# Altium footprint library PcbLib1.PcbLib: 264 footprints (part 2 of 17)
Each footprint in its own frame and in the unit in brackets; x right, y up, seen from the top. Pads: shape width x height; smd on the part's side, far side on the other; paste and mask are expansions set on the pad; w line width, h text height; cw(c..) or ccw(c..) is an arc to the next point about the centre after c.
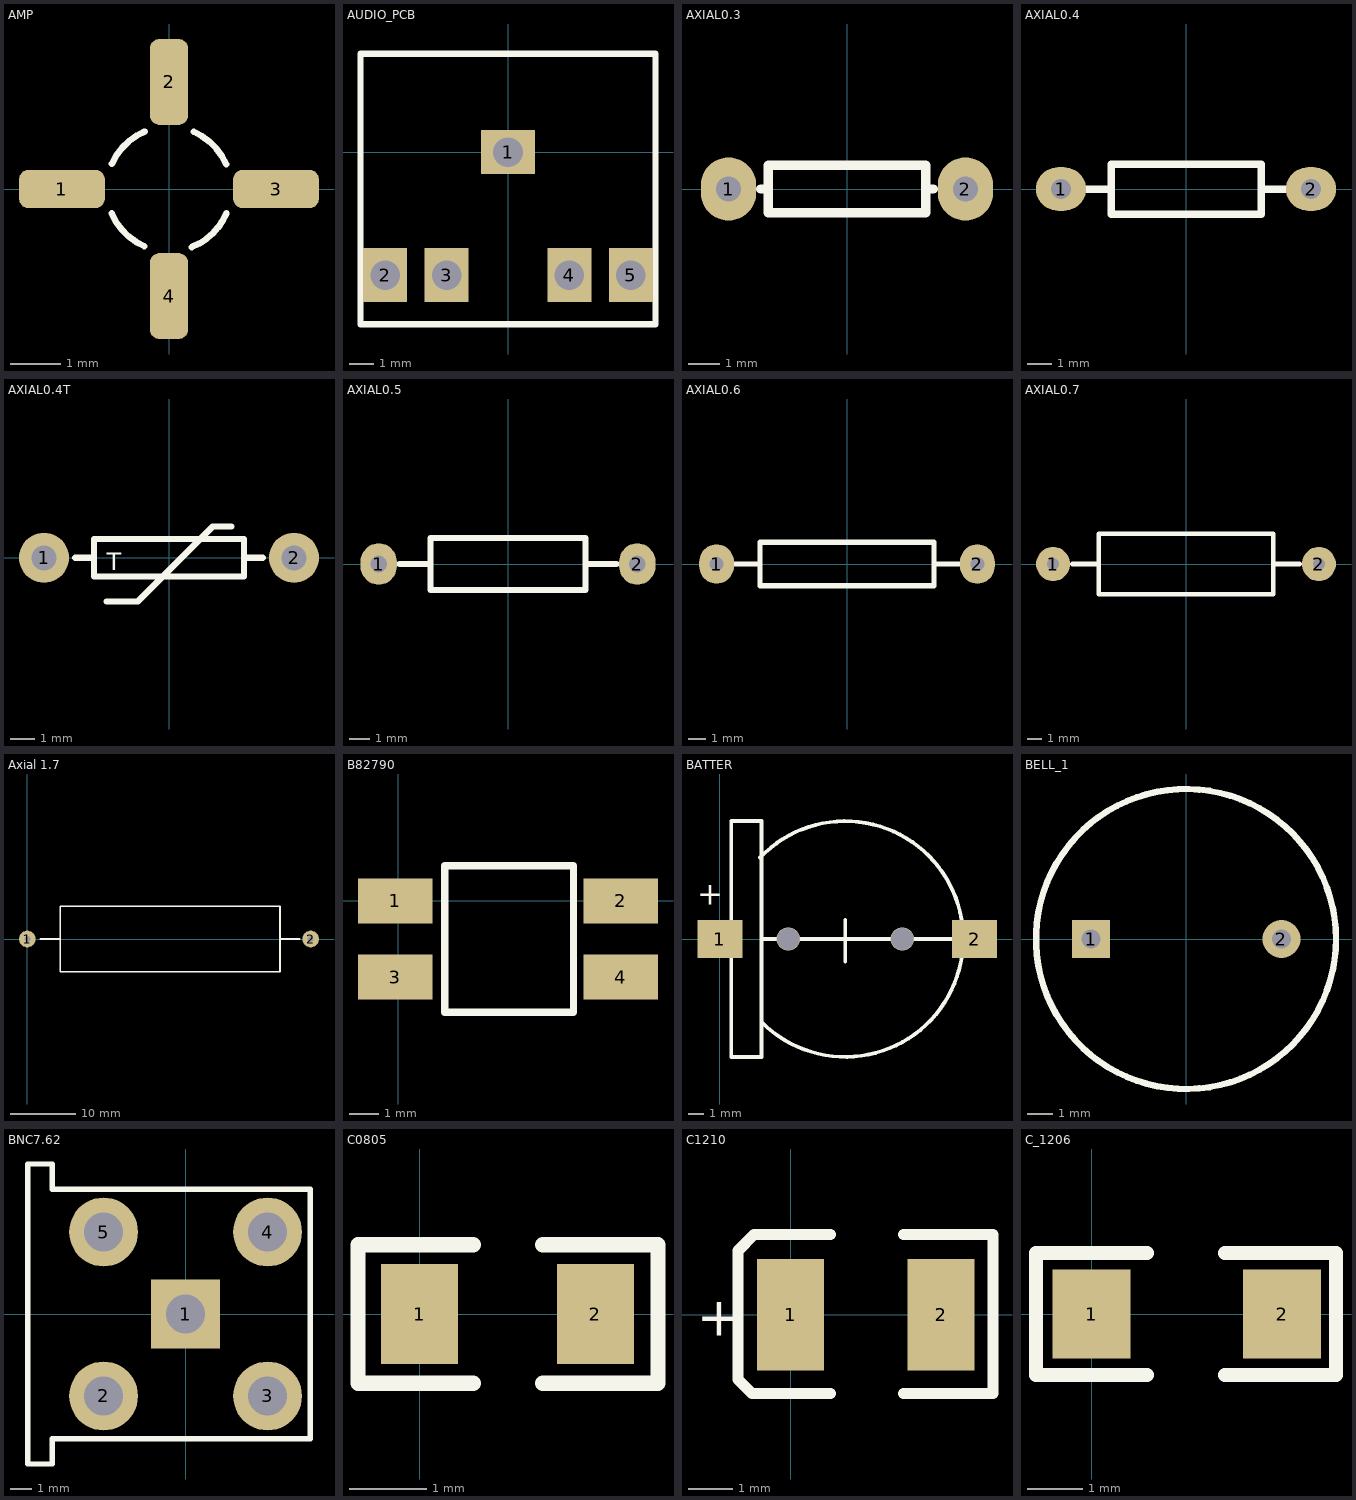
[diagram p1: the footprints below, top view; thin cyan lines are the x and y axes]

## AMP [mm]
pads (4):
  rrect50% 1.7x0.762 smd: 1(-2.12,0) 3(2.12,0)
  rrect50% 0.762x1.7 smd: 2(0,2.12) 4(0,-2.12)
Top Overlay:
  lines w0.127: -1.136,-0.484 ccw(c0,0) -0.488,-1.134 ; -1.131,0.496 cw(c0,0) -0.479,1.138 ; 0.45,-1.15 ccw(c0,0) 1.138,-0.479 ; 0.494,1.132 cw(c0,0) 1.133,0.491

## AUDIO_PCB [mm]
pads (5):
  rect 2.2x1.8 hole 1.2: 1(0,0)
  rect 1.8x2.2 hole 1.2: 2(-5,-5) 3(-2.5,-5) 4(2.5,-5) 5(5,-5)
Top Overlay:
  lines w0.254: -6,-7 6,-7 6,4 -6,4 -6,-7

## AXIAL0.3 [mil]
pads (2):
  oval 70x80 hole 32: 1(-150,0) 2(150,0)
Top Overlay:
  lines w12: -109,0 -100,0 ; 109,0 100,0 ; 100,0 100,-30 -100,-30 -100,30 100,30 100,0

## AXIAL0.4 [mil]
pads (2):
  oval 80x70 hole 32: 1(-200,0) 2(200,0)
Top Overlay:
  lines w12: -160,0 -120,0 ; 120,0 160,0 ; -120,-40 120,-40 120,40 -120,40 -120,-40

## AXIAL0.4T [mil]
pads (2):
  round 80 hole 40: 1(-200,0) 2(200,0)
Top Overlay:
  lines w10: -150,0 -120,0 ; -100,-70 -50,-70 70,50 100,50 ; 120,0 150,0 ; -120,-30 120,-30 120,30 -120,30 -120,-30
  text "T" at -100,-20 h28

## AXIAL0.5 [mil]
pads (2):
  oval 70x80 hole 32: 1(-250,0) 2(250,0)
Top Overlay:
  lines w12: -210,0 -150,0 ; 150,0 210,0 ; -150,-50 -150,50 150,50 150,-50 -150,-50

## AXIAL0.6 [mil]
pads (2):
  oval 80x90 hole 32: 1(-300,0) 2(300,0)
Top Overlay:
  lines w12: -260,0 -200,0 ; 200,0 260,0 ; -200,-50 200,-50 200,50 -200,50 -200,-50

## AXIAL0.7 [mil]
pads (2):
  round 90 hole 32: 1(-350,0) 2(350,0)
Top Overlay:
  lines w12: -300,0 -230,0 ; 230,0 300,0 ; -230,-80 230,-80 230,80 -230,80 -230,-80

## Axial 1.7 [mm]
pads (2):
  round 2.54 hole 0.9: 1(0,0) 2(43.18,0)
Top Overlay:
  lines w0.254: 2,0 5,0 ; 38.5,0 41.5,0 ; 5,-5 5,5 38.5,5 38.5,-5 5,-5

## B82790 [mm]
pads (4):
  rect 2.54x1.524 smd: 1(-0.1,0) 2(7.62,0) 3(-0.1,-2.6) 4(7.62,-2.6)
Top Overlay:
  lines w0.254: 1.6,-3.8 1.6,1.2 6,1.2 6,-3.8 1.6,-3.8

## BATTER [mm]
pads (2):
  rect 3x2.54 smd: 1(0,0) 2(17.018,0)
via 12.192,0 diameter 1.55 hole 1.5
via 4.572,0 diameter 1.55 hole 1.5
Top Overlay:
  lines w0.254: 2.686,5.437 cw(c8.382,0) 2.814,-5.568 ; 2.794,0 16.002,0 ; 8.382,-1.524 8.382,1.27 ; 0.762,-7.874 2.794,-7.874 2.794,7.874 0.762,7.874 0.762,-7.874
  text "+" at -1.524,2.286 h1.52

## BELL_1 [mil]
pads (2):
  rect 60x60 hole 30: 1(-150,0)
  round 60 hole 30: 2(150,0)
Top Overlay:
  circle w10: c-0.39,0 r236.22

## BNC7.62 [mm]
pads (5):
  rect 3.2x3.2 hole 1.8: 1(0,0)
  round 3.2 hole 1.8: 2(-3.81,-3.81) 3(3.81,-3.81) 4(3.81,3.81) 5(-3.81,3.81)
Top Overlay:
  lines w0.254: -7.343,-6.97 -7.343,6.97 -6.2,6.97 -6.2,5.8 5.8,5.8 5.8,-5.8 -6.2,-5.8 -6.2,-6.97 -7.343,-6.97

## C0805 [mm]
pads (2):
  rect 1x1.3 smd: 1(0,0) 2(2.286,0)
Top Overlay:
  lines w0.2: 0.7,-0.9 -0.8,-0.9 -0.8,0.9 0.7,0.9 ; 1.6,-0.9 3.1,-0.9 3.1,0.9 1.6,0.9

## C1210 [mil]
pads (2):
  rect 60x100 smd: 1(0,0) 2(135,0)
Top Overlay:
  lines w10: 35.83,-70.47 -34.65,-70.47 -47.24,-57.87 -47.24,57.48 -32.68,72.05 35.83,72.05 ; 101.18,-70.47 181.5,-70.47 181.5,72.05 101.18,72.05
  text "+" at -83.86,-18.5 h35

## C_1206 [mm]
pads (2):
  rect 1.4x1.6 smd: 1(0,0) 2(3.429,0)
Top Overlay:
  lines w0.254: 1,-1.1 -1,-1.1 -1,1.1 1,1.1 ; 2.4,-1.1 4.4,-1.1 4.4,1.1 2.4,1.1